# Altium footprint library THTKomponente.PcbLib: 2 footprints
Each footprint in its own frame and in the unit in brackets; x right, y up, seen from the top. Pads: shape width x height; smd on the part's side, far side on the other; paste and mask are expansions set on the pad; w line width, h text height; cw(c..) or ccw(c..) is an arc to the next point about the centre after c.
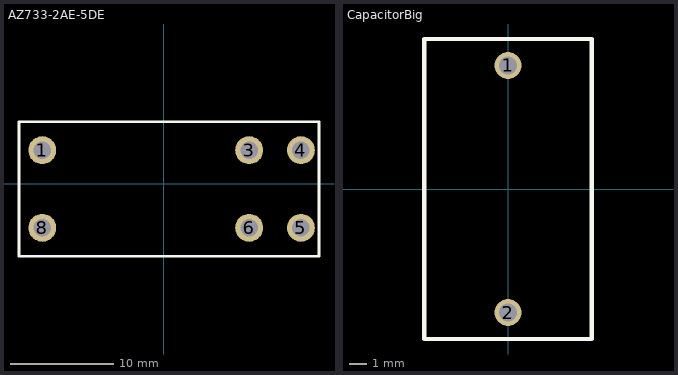
[diagram p0: the footprints below, top view; thin cyan lines are the x and y axes]

## AZ733-2AE-5DE [mm] "Relay AZ733-2AE-5DE"
pads (6):
  round 2.7 hole 1.7: 1(-11.75,3.25) 3(8.25,3.25) 4(13.25,3.25) 5(13.25,-4.25) 6(8.25,-4.25) 8(-11.75,-4.25)
Top Overlay:
  lines w0.254: -14,-7 15,-7 15,6 -14,6 -14,-7

## CapacitorBig [mil]
pads (2):
  round 60 hole 40: 1(0,275.59) 2(0,-275.59)
Top Overlay:
  lines w10: -187.01,-334.65 -187.01,334.65 187.01,334.65 187.01,-334.65 -187.01,-334.65